# Altium schematic symbol library bb_kinetic_harvester.SchLib: 1 symbol
Pins are listed as number, name and electrical type; pins without a type are passive.

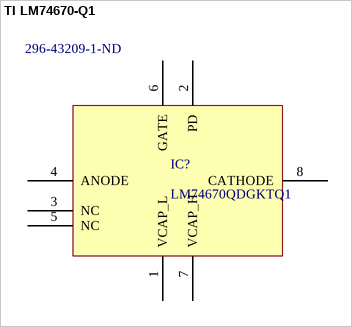
[diagram p0: symbol TI LM74670-Q1]

## TI LM74670-Q1
designator IC?, comment LM74670QDGKTQ1  Supplier Part Number 1: 296-43209-1-ND
Zero IQ Smart Diode Rectifier Controller; ManufacturerPartNumber: LM74670QDGKTQ1; Supplier 1: Digi-Key
footprint TI_8VSSOP
pins: 1 VCAP_L, 2 PD, 3 NC, 4 ANODE, 5 NC, 6 GATE, 7 VCAP_H, 8 CATHODE